# Altium footprint library aplus.PCBLIB: 2 footprints
Each footprint in its own frame and in the unit in brackets; x right, y up, seen from the top. Pads: shape width x height; smd on the part's side, far side on the other; paste and mask are expansions set on the pad; w line width, h text height; cw(c..) or ccw(c..) is an arc to the next point about the centre after c.
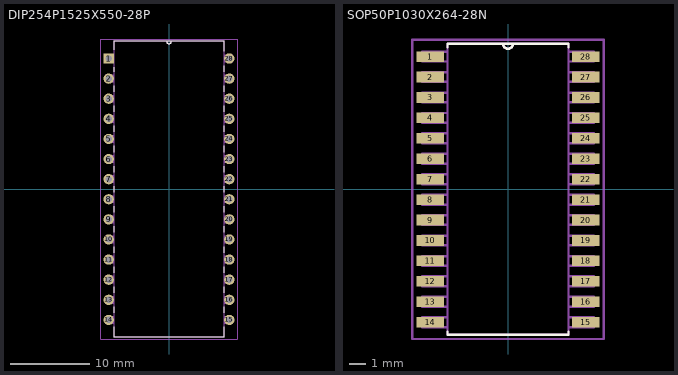
[diagram p0: the footprints below, top view; thin cyan lines are the x and y axes]

## DIP254P1525X550-28P [mil]
pads (28):
  rect 51.18x51.18 hole 32: 1(-300,650)
  round 51.18 hole 32: 2(-300,550) 3(-300,450) 4(-300,350) 5(-300,250) 6(-300,150) 7(-300,50) 8(-300,-50) 9(-300,-150) 10(-300,-250) 11(-300,-350) 12(-300,-450) 13(-300,-550) 14(-300,-650) 15(300,-650) 16(300,-550) 17(300,-450) 18(300,-350) 19(300,-250) 20(300,-150) 21(300,-50) 22(300,50) 23(300,150) 24(300,250) 25(300,350) 26(300,450) 27(300,550) 28(300,650)
Top Overlay:
  lines w0: -12,735 ccw(c0,735) 12,735
  lines w6: -275,-685 -275,-735 275,-735 275,-685 ; -275,-615 -275,-585 ; -275,-515 -275,-485 ; -275,-415 -275,-385 ; -275,-315 -275,-285 ; -275,-215 -275,-185 ; -275,-115 -275,-85 ; -275,-15 -275,15 ; -275,85 -275,115 ; -275,185 -275,215 ; -275,285 -275,315 ; -275,385 -275,415 ; -275,485 -275,515 ; -275,585 -275,607 ; -275,693 -275,735 -12,735 12,735 275,735 275,685 ; 275,-615 275,-585 ; 275,-515 275,-485 ; 275,-415 275,-385 ; 275,-315 275,-285 ; 275,-215 275,-185 ; 275,-115 275,-85 ; 275,-15 275,15 ; 275,85 275,115 ; 275,185 275,215 ; 275,285 275,315 ; 275,385 275,415 ; 275,485 275,515 ; 275,585 275,615
Mechanical 16:
  lines w6: -12,735 12,735 ; -12,735 -275,735 -275,-735 275,-735 275,735 12,735 ; -12,735 ccw(c0,735) 12,735 ; -316,-666 -316,-634 -275,-634 -275,-666 -316,-666 ; -316,-566 -316,-534 -275,-534 -275,-566 -316,-566 ; -316,-466 -316,-434 -275,-434 -275,-466 -316,-466 ; -316,-366 -316,-334 -275,-334 -275,-366 -316,-366 ; -316,-266 -316,-234 -275,-234 -275,-266 -316,-266 ; -316,-166 -316,-134 -275,-134 -275,-166 -316,-166 ; -316,-66 -316,-34 -275,-34 -275,-66 -316,-66 ; -316,34 -316,66 -275,66 -275,34 -316,34 ; -316,134 -316,166 -275,166 -275,134 -316,134 ; -316,234 -316,266 -275,266 -275,234 -316,234 ; -316,334 -316,366 -275,366 -275,334 -316,334 ; -316,434 -316,466 -275,466 -275,434 -316,434 ; -316,534 -316,566 -275,566 -275,534 -316,534 ; -316,634 -316,666 -275,666 -275,634 -316,634 ; 275,-666 275,-634 316,-634 316,-666 275,-666 ; 275,-566 275,-534 316,-534 316,-566 275,-566 ; 275,-466 275,-434 316,-434 316,-466 275,-466 ; 275,-366 275,-334 316,-334 316,-366 275,-366 ; 275,-266 275,-234 316,-234 316,-266 275,-266 ; 275,-166 275,-134 316,-134 316,-166 275,-166 ; 275,-66 275,-34 316,-34 316,-66 275,-66 ; 275,34 275,66 316,66 316,34 275,34 ; 275,134 275,166 316,166 316,134 275,134 ; 275,234 275,266 316,266 316,234 275,234 ; 275,334 275,366 316,366 316,334 275,334 ; 275,434 275,466 316,466 316,434 275,434 ; 275,534 275,566 316,566 316,534 275,534 ; 275,634 275,666 316,666 316,634 275,634
Mechanical 27:
  lines w6: -340,-745 340,-745 340,745 -340,745 -340,-745

## SOP50P1030X264-28N [mil]
pads (28):
  rect 68x26 smd: 1(-190,325) 2(-190,275) 3(-190,225) 4(-190,175) 5(-190,125) 6(-190,75) 7(-190,25) 8(-190,-25) 9(-190,-75) 10(-190,-125) 11(-190,-175) 12(-190,-225) 13(-190,-275) 14(-190,-325) 15(190,-325) 16(190,-275) 17(190,-225) 18(190,-175) 19(190,-125) 20(190,-75) 21(190,-25) 22(190,25) 23(190,75) 24(190,125) 25(190,175) 26(190,225) 27(190,275) 28(190,325)
Top Overlay:
  lines w6: -148,-348 -148,-356 148,-356 148,-348 ; -148,348 -148,356 -12,356 ; 148,348 148,356 12,356 ; -12,356 12,356 ; -12,356 ccw(c0,356) 12,356
Mechanical 16:
  lines w6: -12,356 12,356 ; -12,356 -148,356 -148,-356 148,-356 148,356 12,356 ; -12,356 ccw(c0,356) 12,356 ; -210,-337 -210,-313 -148,-313 -148,-337 -210,-337 ; -210,-287 -210,-263 -148,-263 -148,-287 -210,-287 ; -210,-237 -210,-213 -148,-213 -148,-237 -210,-237 ; -210,-187 -210,-163 -148,-163 -148,-187 -210,-187 ; -210,-137 -210,-113 -148,-113 -148,-137 -210,-137 ; -210,-87 -210,-63 -148,-63 -148,-87 -210,-87 ; -210,-37 -210,-13 -148,-13 -148,-37 -210,-37 ; -210,13 -210,37 -148,37 -148,13 -210,13 ; -210,63 -210,87 -148,87 -148,63 -210,63 ; -210,113 -210,137 -148,137 -148,113 -210,113 ; -210,163 -210,187 -148,187 -148,163 -210,163 ; -210,213 -210,237 -148,237 -148,213 -210,213 ; -210,263 -210,287 -148,287 -148,263 -210,263 ; -210,313 -210,337 -148,337 -148,313 -210,313 ; 148,-337 148,-313 210,-313 210,-337 148,-337 ; 148,-287 148,-263 210,-263 210,-287 148,-287 ; 148,-237 148,-213 210,-213 210,-237 148,-237 ; 148,-187 148,-163 210,-163 210,-187 148,-187 ; 148,-137 148,-113 210,-113 210,-137 148,-137 ; 148,-87 148,-63 210,-63 210,-87 148,-87 ; 148,-37 148,-13 210,-13 210,-37 148,-37 ; 148,13 148,37 210,37 210,13 148,13 ; 148,63 148,87 210,87 210,63 148,63 ; 148,113 148,137 210,137 210,113 148,113 ; 148,163 148,187 210,187 210,163 148,163 ; 148,213 148,237 210,237 210,213 148,213 ; 148,263 148,287 210,287 210,263 148,263 ; 148,313 148,337 210,337 210,313 148,313
Mechanical 27:
  lines w6: -234,-366 234,-366 234,366 -234,366 -234,-366